# Altium integrated library National Semiconductor Amplifier.IntLib: 1665 symbols (part 38 of 44)
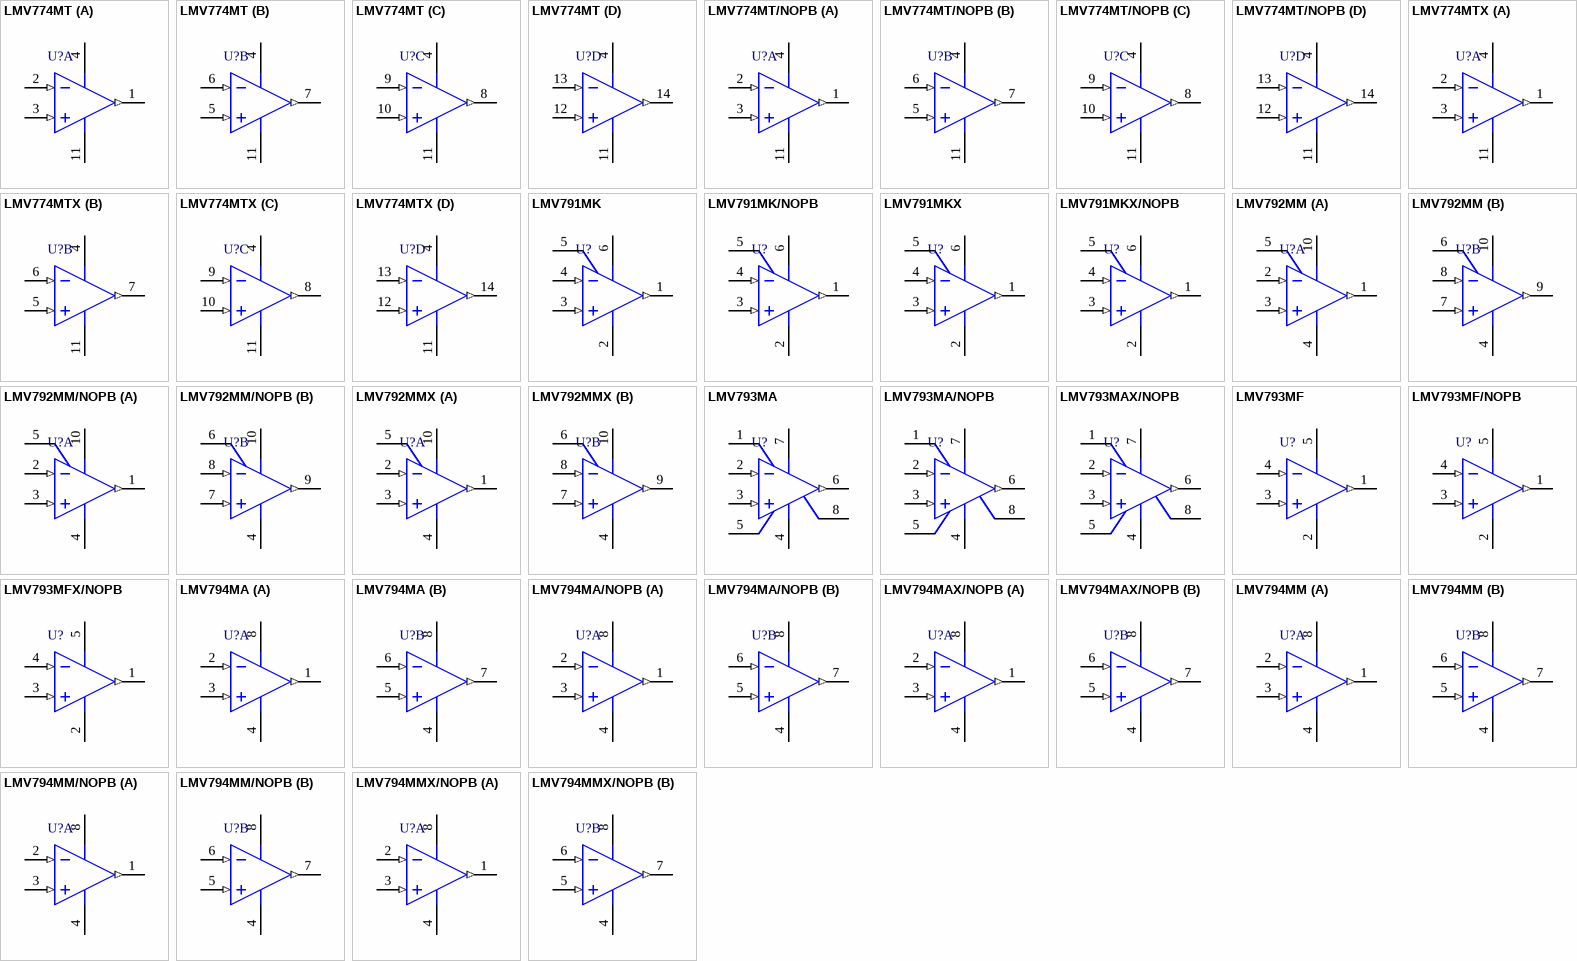
[diagram p121: symbols LMV774MT to LMV794MMX/NOPB]

## LMV791MKX
designator U?
17 MHz, Low Noise, CMOS Input, 1.8V Operational Amplifiers with Shutdown, 6-pin Tiny SOT23; PartNumber: LMV791MKX; Manufacturer: National Semiconductor; PackageTopMarking: AS1A*XTT; PowerWise: Y; DatasheetVersion: Jun-2008; PackageVersion: revE, Nov-2008; PackageReference: MK06A; PackageDescription: Molded TSOT, 2.97 x 1.65 x 0.87mm Body, 6 Lead, 0.95mm Pitch; RoHS: N; PinCount: 6; CompType: Amplifiers; High-Reliability: Y; Code_JEDEC: MO-193-AA; Code_IPC: SOT26A-6; ComponentLink1Description: Manufacturer URL; ComponentLink1URL: http://www.national.com/; ComponentLink2Description: LMV791 Datasheet; ComponentLink2URL: http://www.national.com/ds/LM/LMV791.pdf; ComponentLink3Description: LMV791 Web Page; ComponentLink3URL: http://www.national.com/pf/LM/LMV791.html; ComponentLink4Description: MK06A Package Page; ComponentLink4URL: http://www.national.com/packaging/folders/mk06a.html
footprint MK06A_N (SOT23, 6-Leads, Body 3.0x1.7mm, Pitch 0.95mm, Lead Span 2.9mm, IPC Medium Density)
footprint MK06A_L (SOT23, 6-Leads, Body 3.0x1.7mm, Pitch 0.95mm, Lead Span 2.9mm, IPC High Density)
footprint MK06A_M (SOT23, 6-Leads, Body 3.0x1.7mm, Pitch 0.95mm, Lead Span 2.9mm, IPC Low Density)
pins: 1 OUT (out), 2 V- (power), 3 IN+ (in), 4 IN- (in), 5 EN, 6 V+ (power)

## LMV791MKX/NOPB
designator U?
17 MHz, Low Noise, CMOS Input, 1.8V Operational Amplifiers with Shutdown, 6-pin Tiny SOT23, Pb-Free; PartNumber: LMV791MKX/NOPB; Manufacturer: National Semiconductor; PackageTopMarking: AS1A*XTT; PowerWise: Y; DatasheetVersion: Jun-2008; PackageVersion: revE, Nov-2008; PackageReference: MK06A; PackageDescription: Molded TSOT, 2.97 x 1.65 x 0.87mm Body, 6 Lead, 0.95mm Pitch; RoHS: Y; PinCount: 6; CompType: Amplifiers; High-Reliability: Y; Code_JEDEC: MO-193-AA; Code_IPC: SOT26A-6; ComponentLink1Description: Manufacturer URL; ComponentLink1URL: http://www.national.com/; ComponentLink2Description: LMV791 Datasheet; ComponentLink2URL: http://www.national.com/ds/LM/LMV791.pdf; ComponentLink3Description: LMV791 Web Page; ComponentLink3URL: http://www.national.com/pf/LM/LMV791.html; ComponentLink4Description: MK06A Package Page; ComponentLink4URL: http://www.national.com/packaging/folders/mk06a.html
footprint MK06A_N (SOT23, 6-Leads, Body 3.0x1.7mm, Pitch 0.95mm, Lead Span 2.9mm, IPC Medium Density)
footprint MK06A_L (SOT23, 6-Leads, Body 3.0x1.7mm, Pitch 0.95mm, Lead Span 2.9mm, IPC High Density)
footprint MK06A_M (SOT23, 6-Leads, Body 3.0x1.7mm, Pitch 0.95mm, Lead Span 2.9mm, IPC Low Density)
pins: 1 OUT (out), 2 V- (power), 3 IN+ (in), 4 IN- (in), 5 EN, 6 V+ (power)

## LMV792MM
designator U?
17 MHz, Low Noise, CMOS Input, 1.8V Operational Amplifiers with Shutdown, 10-pin MSOP; PartNumber: LMV792MM; Manufacturer: National Semiconductor; PackageTopMarking: ZXTT*AX2A; PowerWise: Y; DatasheetVersion: Jun-2008; PackageVersion: revB, Jul-2003; PackageReference: MUB10A; PackageDescription: Mini-SO, Molded, .118 x .118 x .034in Body, 10 Lead, .0197in Pitch; RoHS: N; PinCount: 10; CompType: Amplifiers; High-Reliability: Y; Code_JEDEC: MO-187-BA; ComponentLink1Description: Manufacturer URL; ComponentLink1URL: http://www.national.com/; ComponentLink2Description: LMV792 Datasheet; ComponentLink2URL: http://www.national.com/ds/LM/LMV792.pdf; ComponentLink3Description: LMV792 Web Page; ComponentLink3URL: http://www.national.com/pf/LM/LMV792.html; ComponentLink4Description: MUB10A Package Page; ComponentLink4URL: http://www.national.com/packaging/folders/mub10a.html
footprint MUB10A_N (TSSOP, 10-Leads, Body 3x3mm, Pitch 0.5mm, IPC Medium Density)
footprint MUB10A_L (TSSOP, 10-Leads, Body 3x3mm, Pitch 0.5mm, IPC High Density)
footprint MUB10A_M (TSSOP, 10-Leads, Body 3x3mm, Pitch 0.5mm, IPC Low Density)
pins on every part: 4 V- (power), 10 V+ (power)
part A pins: 1 OUTA (out), 2 INA- (in), 3 INA+ (in), 5 ENA
part B pins: 6 ENB, 7 INB+ (in), 8 INB- (in), 9 OUTB (out)

## LMV792MM/NOPB
designator U?
17 MHz, Low Noise, CMOS Input, 1.8V Operational Amplifiers with Shutdown, 10-pin Mini SOIC, Pb-Free; PartNumber: LMV792MM/NOPB; Manufacturer: National Semiconductor; PackageTopMarking: ZXTT*AX2A; PowerWise: Y; DatasheetVersion: Jun-2008; PackageVersion: revB, Jul-2003; PackageReference: MUB10A; PackageDescription: Mini-SO, Molded, .118 x .118 x .034in Body, 10 Lead, .0197in Pitch; RoHS: Y; PinCount: 10; CompType: Amplifiers; High-Reliability: Y; Code_JEDEC: MO-187-BA; ComponentLink1Description: Manufacturer URL; ComponentLink1URL: http://www.national.com/; ComponentLink2Description: LMV792 Datasheet; ComponentLink2URL: http://www.national.com/ds/LM/LMV792.pdf; ComponentLink3Description: LMV792 Web Page; ComponentLink3URL: http://www.national.com/pf/LM/LMV792.html; ComponentLink4Description: MUB10A Package Page; ComponentLink4URL: http://www.national.com/packaging/folders/mub10a.html
footprint MUB10A_N (TSSOP, 10-Leads, Body 3x3mm, Pitch 0.5mm, IPC Medium Density)
footprint MUB10A_L (TSSOP, 10-Leads, Body 3x3mm, Pitch 0.5mm, IPC High Density)
footprint MUB10A_M (TSSOP, 10-Leads, Body 3x3mm, Pitch 0.5mm, IPC Low Density)
pins on every part: 4 V- (power), 10 V+ (power)
part A pins: 1 OUTA (out), 2 INA- (in), 3 INA+ (in), 5 ENA
part B pins: 6 ENB, 7 INB+ (in), 8 INB- (in), 9 OUTB (out)

## LMV792MMX
designator U?
17 MHz, Low Noise, CMOS Input, 1.8V Operational Amplifiers with Shutdown, 10-pin Mini SOIC; PartNumber: LMV792MMX; Manufacturer: National Semiconductor; PackageTopMarking: ZXTT*AX2A; PowerWise: Y; DatasheetVersion: Jun-2008; PackageVersion: revB, Jul-2003; PackageReference: MUB10A; PackageDescription: Mini-SO, Molded, .118 x .118 x .034in Body, 10 Lead, .0197in Pitch; RoHS: N; PinCount: 10; CompType: Amplifiers; High-Reliability: Y; Code_JEDEC: MO-187-BA; ComponentLink1Description: Manufacturer URL; ComponentLink1URL: http://www.national.com/; ComponentLink2Description: LMV792 Datasheet; ComponentLink2URL: http://www.national.com/ds/LM/LMV792.pdf; ComponentLink3Description: LMV792 Web Page; ComponentLink3URL: http://www.national.com/pf/LM/LMV792.html; ComponentLink4Description: MUB10A Package Page; ComponentLink4URL: http://www.national.com/packaging/folders/mub10a.html
footprint MUB10A_N (TSSOP, 10-Leads, Body 3x3mm, Pitch 0.5mm, IPC Medium Density)
footprint MUB10A_L (TSSOP, 10-Leads, Body 3x3mm, Pitch 0.5mm, IPC High Density)
footprint MUB10A_M (TSSOP, 10-Leads, Body 3x3mm, Pitch 0.5mm, IPC Low Density)
pins on every part: 4 V- (power), 10 V+ (power)
part A pins: 1 OUTA (out), 2 INA- (in), 3 INA+ (in), 5 ENA
part B pins: 6 ENB, 7 INB+ (in), 8 INB- (in), 9 OUTB (out)

## LMV793MA
designator U?
88 MHz, Low Noise, 1.8V CMOS Input, Decompensated Operational Amplifiers, 8-pin Narrow SOIC; PartNumber: LMV793MA; Manufacturer: National Semiconductor; PackageTopMarking: NSZXTT*LMV7*93MA; PowerWise: Y; DatasheetVersion: Jun-2008; PackageVersion: revM, May-2009; PackageReference: M08A; PackageDescription: SOIC Narrow, 4.9 x 3.9 x 1.45mm, 8 Lead, 1.27mm Pitch; RoHS: Y; PinCount: 8; CompType: Amplifiers; High-Reliability: Y; Code_JEDEC: MS-012-AA; Code_IPC: SOIC127P600-8; ComponentLink1Description: Manufacturer URL; ComponentLink1URL: http://www.national.com/; ComponentLink2Description: LMV793 Datasheet; ComponentLink2URL: http://www.national.com/ds/LM/LMV793.pdf; ComponentLink3Description: LMV793 Web Page; ComponentLink3URL: http://www.national.com/pf/LM/LMV793.html; ComponentLink4Description: M08A Package Page; ComponentLink4URL: http://www.national.com/packaging/folders/m08a.html
footprint M08A_N (SOIC, 8-Leads, Body 4.9x3.9mm, Pitch 1.27mm, IPC Medium Density)
footprint M08A_L (SOIC, 8-Leads, Body 4.9x3.9mm, Pitch 1.27mm, IPC High Density)
footprint M08A_M (SOIC, 8-Leads, Body 4.9x3.9mm, Pitch 1.27mm, IPC Low Density)
pins: 1 NC, 2 IN- (in), 3 IN+ (in), 4 V- (power), 5 NC, 6 OUT (out), 7 V+ (power), 8 NC

## LMV793MA/NOPB
designator U?
88 MHz, Low Noise, 1.8V CMOS Input, Decompensated Operational Amplifiers, 8-pin Narrow SOIC, Pb-Free; PartNumber: LMV793MA/NOPB; Manufacturer: National Semiconductor; PackageTopMarking: NSZXTT*LMV7*93MA; PowerWise: Y; DatasheetVersion: Jun-2008; PackageVersion: revM, May-2009; PackageReference: M08A; PackageDescription: SOIC Narrow, 4.9 x 3.9 x 1.45mm, 8 Lead, 1.27mm Pitch; RoHS: Y; PinCount: 8; CompType: Amplifiers; High-Reliability: Y; Code_JEDEC: MS-012-AA; Code_IPC: SOIC127P600-8; ComponentLink1Description: Manufacturer URL; ComponentLink1URL: http://www.national.com/; ComponentLink2Description: LMV793 Datasheet; ComponentLink2URL: http://www.national.com/ds/LM/LMV793.pdf; ComponentLink3Description: LMV793 Web Page; ComponentLink3URL: http://www.national.com/pf/LM/LMV793.html; ComponentLink4Description: M08A Package Page; ComponentLink4URL: http://www.national.com/packaging/folders/m08a.html
footprint M08A_N (SOIC, 8-Leads, Body 4.9x3.9mm, Pitch 1.27mm, IPC Medium Density)
footprint M08A_L (SOIC, 8-Leads, Body 4.9x3.9mm, Pitch 1.27mm, IPC High Density)
footprint M08A_M (SOIC, 8-Leads, Body 4.9x3.9mm, Pitch 1.27mm, IPC Low Density)
pins: 1 NC, 2 IN- (in), 3 IN+ (in), 4 V- (power), 5 NC, 6 OUT (out), 7 V+ (power), 8 NC

## LMV793MAX/NOPB
designator U?
88 MHz, Low Noise, 1.8V CMOS Input, Decompensated Operational Amplifiers, 8-pin Narrow SOIC, Pb-Free; PartNumber: LMV793MAX/NOPB; Manufacturer: National Semiconductor; PackageTopMarking: NSZXTT*LMV7*93MA; PowerWise: Y; DatasheetVersion: Jun-2008; PackageVersion: revM, May-2009; PackageReference: M08A; PackageDescription: SOIC Narrow, 4.9 x 3.9 x 1.45mm, 8 Lead, 1.27mm Pitch; RoHS: Y; PinCount: 8; CompType: Amplifiers; High-Reliability: Y; Code_JEDEC: MS-012-AA; Code_IPC: SOIC127P600-8; ComponentLink1Description: Manufacturer URL; ComponentLink1URL: http://www.national.com/; ComponentLink2Description: LMV793 Datasheet; ComponentLink2URL: http://www.national.com/ds/LM/LMV793.pdf; ComponentLink3Description: LMV793 Web Page; ComponentLink3URL: http://www.national.com/pf/LM/LMV793.html; ComponentLink4Description: M08A Package Page; ComponentLink4URL: http://www.national.com/packaging/folders/m08a.html
footprint M08A_N (SOIC, 8-Leads, Body 4.9x3.9mm, Pitch 1.27mm, IPC Medium Density)
footprint M08A_L (SOIC, 8-Leads, Body 4.9x3.9mm, Pitch 1.27mm, IPC High Density)
footprint M08A_M (SOIC, 8-Leads, Body 4.9x3.9mm, Pitch 1.27mm, IPC Low Density)
pins: 1 NC, 2 IN- (in), 3 IN+ (in), 4 V- (power), 5 NC, 6 OUT (out), 7 V+ (power), 8 NC

## LMV793MF
designator U?
88 MHz, Low Noise, 1.8V CMOS Input, Decompensated Operational Amplifiers, 5-pin SOT-23; PartNumber: LMV793MF; Manufacturer: National Semiconductor; PackageTopMarking: AS4A*XTT; PowerWise: Y; DatasheetVersion: Jun-2008; PackageVersion: revD, Aug-2008; PackageReference: MF05A; PackageDescription: Molded SOT-23, .115 x .063 x .040 in Body, 5 Lead, .0375 in Pitch; RoHS: Y; PinCount: 5; CompType: Amplifiers; High-Reliability: Y; ComponentLink1Description: Manufacturer URL; ComponentLink1URL: http://www.national.com/; ComponentLink2Description: LMV793 Datasheet; ComponentLink2URL: http://www.national.com/ds/LM/LMV793.pdf; ComponentLink3Description: LMV793 Web Page; ComponentLink3URL: http://www.national.com/pf/LM/LMV793.html; ComponentLink4Description: MF05A Package Page; ComponentLink4URL: http://www.national.com/packaging/folders/mf05a.html
footprint MF05A_N (SOT23, 5-Leads, Body 2.9x1.6mm, Pitch 0.95mm, Lead Span 2.8mm, IPC Medium Density)
footprint MF05A_L (SOT23, 5-Leads, Body 2.9x1.6mm, Pitch 0.95mm, Lead Span 2.8mm, IPC High Density)
footprint MF05A_M (SOT23, 5-Leads, Body 2.9x1.6mm, Pitch 0.95mm, Lead Span 2.8mm, IPC Low Density)
pins: 1 OUT (out), 2 V- (power), 3 IN+ (in), 4 IN- (in), 5 V+ (power)

## LMV793MF/NOPB
designator U?
88 MHz, Low Noise, 1.8V CMOS Input, Decompensated Operational Amplifiers, 5-pin SOT-23, Pb-Free; PartNumber: LMV793MF/NOPB; Manufacturer: National Semiconductor; PackageTopMarking: AS4A*XTT; PowerWise: Y; DatasheetVersion: Jun-2008; PackageVersion: revD, Aug-2008; PackageReference: MF05A; PackageDescription: Molded SOT-23, .115 x .063 x .040 in Body, 5 Lead, .0375 in Pitch; RoHS: Y; PinCount: 5; CompType: Amplifiers; High-Reliability: Y; ComponentLink1Description: Manufacturer URL; ComponentLink1URL: http://www.national.com/; ComponentLink2Description: LMV793 Datasheet; ComponentLink2URL: http://www.national.com/ds/LM/LMV793.pdf; ComponentLink3Description: LMV793 Web Page; ComponentLink3URL: http://www.national.com/pf/LM/LMV793.html; ComponentLink4Description: MF05A Package Page; ComponentLink4URL: http://www.national.com/packaging/folders/mf05a.html
footprint MF05A_N (SOT23, 5-Leads, Body 2.9x1.6mm, Pitch 0.95mm, Lead Span 2.8mm, IPC Medium Density)
footprint MF05A_L (SOT23, 5-Leads, Body 2.9x1.6mm, Pitch 0.95mm, Lead Span 2.8mm, IPC High Density)
footprint MF05A_M (SOT23, 5-Leads, Body 2.9x1.6mm, Pitch 0.95mm, Lead Span 2.8mm, IPC Low Density)
pins: 1 OUT (out), 2 V- (power), 3 IN+ (in), 4 IN- (in), 5 V+ (power)

## LMV793MFX/NOPB
designator U?
88 MHz, Low Noise, 1.8V CMOS Input, Decompensated Operational Amplifiers, 5-pin SOT-23, Pb-Free; PartNumber: LMV793MFX/NOPB; Manufacturer: National Semiconductor; PackageTopMarking: AS4A*XTT; PowerWise: Y; DatasheetVersion: Jun-2008; PackageVersion: revD, Aug-2008; PackageReference: MF05A; PackageDescription: Molded SOT-23, .115 x .063 x .040 in Body, 5 Lead, .0375 in Pitch; RoHS: Y; PinCount: 5; CompType: Amplifiers; High-Reliability: Y; ComponentLink1Description: Manufacturer URL; ComponentLink1URL: http://www.national.com/; ComponentLink2Description: LMV793 Datasheet; ComponentLink2URL: http://www.national.com/ds/LM/LMV793.pdf; ComponentLink3Description: LMV793 Web Page; ComponentLink3URL: http://www.national.com/pf/LM/LMV793.html; ComponentLink4Description: MF05A Package Page; ComponentLink4URL: http://www.national.com/packaging/folders/mf05a.html
footprint MF05A_N (SOT23, 5-Leads, Body 2.9x1.6mm, Pitch 0.95mm, Lead Span 2.8mm, IPC Medium Density)
footprint MF05A_L (SOT23, 5-Leads, Body 2.9x1.6mm, Pitch 0.95mm, Lead Span 2.8mm, IPC High Density)
footprint MF05A_M (SOT23, 5-Leads, Body 2.9x1.6mm, Pitch 0.95mm, Lead Span 2.8mm, IPC Low Density)
pins: 1 OUT (out), 2 V- (power), 3 IN+ (in), 4 IN- (in), 5 V+ (power)

## LMV794MA
designator U?
88 MHz, Low Noise, 1.8V CMOS Input, Decompensated Operational Amplifiers, 8-pin Narrow SOIC; PartNumber: LMV794MA; Manufacturer: National Semiconductor; PackageTopMarking: NSZXTT*LMV7*94MA; PowerWise: Y; DatasheetVersion: Jun-2008; PackageVersion: revM, May-2009; PackageReference: M08A; PackageDescription: SOIC Narrow, 4.9 x 3.9 x 1.45mm, 8 Lead, 1.27mm Pitch; RoHS: Y; PinCount: 8; CompType: Amplifiers; High-Reliability: Y; Code_JEDEC: MS-012-AA; Code_IPC: SOIC127P600-8; ComponentLink1Description: Manufacturer URL; ComponentLink1URL: http://www.national.com/; ComponentLink2Description: LMV794 Datasheet; ComponentLink2URL: http://www.national.com/ds/LM/LMV794.pdf; ComponentLink3Description: LMV794 Web Page; ComponentLink3URL: http://www.national.com/pf/LM/LMV794.html; ComponentLink4Description: M08A Package Page; ComponentLink4URL: http://www.national.com/packaging/folders/m08a.html
footprint M08A_N (SOIC, 8-Leads, Body 4.9x3.9mm, Pitch 1.27mm, IPC Medium Density)
footprint M08A_L (SOIC, 8-Leads, Body 4.9x3.9mm, Pitch 1.27mm, IPC High Density)
footprint M08A_M (SOIC, 8-Leads, Body 4.9x3.9mm, Pitch 1.27mm, IPC Low Density)
pins on every part: 4 V- (power), 8 V+ (power)
part A pins: 1 OUTA (out), 2 INA- (in), 3 INA+ (in)
part B pins: 5 INB+ (in), 6 INB- (in), 7 OUTB (out)

## LMV794MA/NOPB
designator U?
88 MHz, Low Noise, 1.8V CMOS Input, Decompensated Operational Amplifiers, 8-pin Narrow SOIC, Pb-Free; PartNumber: LMV794MA/NOPB; Manufacturer: National Semiconductor; PackageTopMarking: NSZXTT*LMV7*94MA; PowerWise: Y; DatasheetVersion: Jun-2008; PackageVersion: revM, May-2009; PackageReference: M08A; PackageDescription: SOIC Narrow, 4.9 x 3.9 x 1.45mm, 8 Lead, 1.27mm Pitch; RoHS: Y; PinCount: 8; CompType: Amplifiers; High-Reliability: Y; Code_JEDEC: MS-012-AA; Code_IPC: SOIC127P600-8; ComponentLink1Description: Manufacturer URL; ComponentLink1URL: http://www.national.com/; ComponentLink2Description: LMV794 Datasheet; ComponentLink2URL: http://www.national.com/ds/LM/LMV794.pdf; ComponentLink3Description: LMV794 Web Page; ComponentLink3URL: http://www.national.com/pf/LM/LMV794.html; ComponentLink4Description: M08A Package Page; ComponentLink4URL: http://www.national.com/packaging/folders/m08a.html
footprint M08A_N (SOIC, 8-Leads, Body 4.9x3.9mm, Pitch 1.27mm, IPC Medium Density)
footprint M08A_L (SOIC, 8-Leads, Body 4.9x3.9mm, Pitch 1.27mm, IPC High Density)
footprint M08A_M (SOIC, 8-Leads, Body 4.9x3.9mm, Pitch 1.27mm, IPC Low Density)
pins on every part: 4 V- (power), 8 V+ (power)
part A pins: 1 OUTA (out), 2 INA- (in), 3 INA+ (in)
part B pins: 5 INB+ (in), 6 INB- (in), 7 OUTB (out)

## LMV794MAX/NOPB
designator U?
88 MHz, Low Noise, 1.8V CMOS Input, Decompensated Operational Amplifiers, 8-pin Narrow SOIC, Pb-Free; PartNumber: LMV794MAX/NOPB; Manufacturer: National Semiconductor; PackageTopMarking: NSZXTT*LMV7*94MA; PowerWise: Y; DatasheetVersion: Jun-2008; PackageVersion: revM, May-2009; PackageReference: M08A; PackageDescription: SOIC Narrow, 4.9 x 3.9 x 1.45mm, 8 Lead, 1.27mm Pitch; RoHS: Y; PinCount: 8; CompType: Amplifiers; High-Reliability: Y; Code_JEDEC: MS-012-AA; Code_IPC: SOIC127P600-8; ComponentLink1Description: Manufacturer URL; ComponentLink1URL: http://www.national.com/; ComponentLink2Description: LMV794 Datasheet; ComponentLink2URL: http://www.national.com/ds/LM/LMV794.pdf; ComponentLink3Description: LMV794 Web Page; ComponentLink3URL: http://www.national.com/pf/LM/LMV794.html; ComponentLink4Description: M08A Package Page; ComponentLink4URL: http://www.national.com/packaging/folders/m08a.html
footprint M08A_N (SOIC, 8-Leads, Body 4.9x3.9mm, Pitch 1.27mm, IPC Medium Density)
footprint M08A_L (SOIC, 8-Leads, Body 4.9x3.9mm, Pitch 1.27mm, IPC High Density)
footprint M08A_M (SOIC, 8-Leads, Body 4.9x3.9mm, Pitch 1.27mm, IPC Low Density)
pins on every part: 4 V- (power), 8 V+ (power)
part A pins: 1 OUTA (out), 2 INA- (in), 3 INA+ (in)
part B pins: 5 INB+ (in), 6 INB- (in), 7 OUTB (out)

## LMV794MM
designator U?
88 MHz, Low Noise, 1.8V CMOS Input, Decompensated Operational Amplifiers, 8-pin Mini SOIC; PartNumber: LMV794MM; Manufacturer: National Semiconductor; PackageTopMarking: ZXTT*AN4A; PowerWise: Y; DatasheetVersion: Jun-2008; PackageVersion: revF, Apr-2008; PackageReference: MUA08A; PackageDescription: MINI SOIC, .118 x .118 x .034in, 8 Lead, .0256in Pitch; RoHS: Y; PinCount: 8; CompType: Amplifiers; High-Reliability: Y; Code_JEDEC: MO-187-AA; ComponentLink1Description: Manufacturer URL; ComponentLink1URL: http://www.national.com/; ComponentLink2Description: LMV794 Datasheet; ComponentLink2URL: http://www.national.com/ds/LM/LMV794.pdf; ComponentLink3Description: LMV794 Web Page; ComponentLink3URL: http://www.national.com/pf/LM/LMV794.html; ComponentLink4Description: MUA08A Package Page; ComponentLink4URL: http://www.national.com/packaging/folders/mua08a.html
footprint MUA08A_N (TSOP, 8-Leads, Body 3x3mm, Pitch 0.65mm, IPC Medium Density)
footprint MUA08A_L (TSOP, 8-Leads, Body 3x3mm, Pitch 0.65mm, IPC High Density)
footprint MUA08A_M (TSOP, 8-Leads, Body 3x3mm, Pitch 0.65mm, IPC Low Density)
pins on every part: 4 V- (power), 8 V+ (power)
part A pins: 1 OUTA (out), 2 INA- (in), 3 INA+ (in)
part B pins: 5 INB+ (in), 6 INB- (in), 7 OUTB (out)

## LMV794MM/NOPB
designator U?
88 MHz, Low Noise, 1.8V CMOS Input, Decompensated Operational Amplifiers, 8-pin Mini SOIC, Pb-Free; PartNumber: LMV794MM/NOPB; Manufacturer: National Semiconductor; PackageTopMarking: ZXTT*AN4A; PowerWise: Y; DatasheetVersion: Jun-2008; PackageVersion: revF, Apr-2008; PackageReference: MUA08A; PackageDescription: MINI SOIC, .118 x .118 x .034in, 8 Lead, .0256in Pitch; RoHS: Y; PinCount: 8; CompType: Amplifiers; High-Reliability: Y; Code_JEDEC: MO-187-AA; ComponentLink1Description: Manufacturer URL; ComponentLink1URL: http://www.national.com/; ComponentLink2Description: LMV794 Datasheet; ComponentLink2URL: http://www.national.com/ds/LM/LMV794.pdf; ComponentLink3Description: LMV794 Web Page; ComponentLink3URL: http://www.national.com/pf/LM/LMV794.html; ComponentLink4Description: MUA08A Package Page; ComponentLink4URL: http://www.national.com/packaging/folders/mua08a.html
footprint MUA08A_N (TSOP, 8-Leads, Body 3x3mm, Pitch 0.65mm, IPC Medium Density)
footprint MUA08A_L (TSOP, 8-Leads, Body 3x3mm, Pitch 0.65mm, IPC High Density)
footprint MUA08A_M (TSOP, 8-Leads, Body 3x3mm, Pitch 0.65mm, IPC Low Density)
pins on every part: 4 V- (power), 8 V+ (power)
part A pins: 1 OUTA (out), 2 INA- (in), 3 INA+ (in)
part B pins: 5 INB+ (in), 6 INB- (in), 7 OUTB (out)

## LMV794MMX/NOPB
designator U?
88 MHz, Low Noise, 1.8V CMOS Input, Decompensated Operational Amplifiers, 8-pin Mini SOIC, Pb-Free; PartNumber: LMV794MMX/NOPB; Manufacturer: National Semiconductor; PackageTopMarking: ZXTT*AN4A; PowerWise: Y; DatasheetVersion: Jun-2008; PackageVersion: revF, Apr-2008; PackageReference: MUA08A; PackageDescription: MINI SOIC, .118 x .118 x .034in, 8 Lead, .0256in Pitch; RoHS: Y; PinCount: 8; CompType: Amplifiers; High-Reliability: Y; Code_JEDEC: MO-187-AA; ComponentLink1Description: Manufacturer URL; ComponentLink1URL: http://www.national.com/; ComponentLink2Description: LMV794 Datasheet; ComponentLink2URL: http://www.national.com/ds/LM/LMV794.pdf; ComponentLink3Description: LMV794 Web Page; ComponentLink3URL: http://www.national.com/pf/LM/LMV794.html; ComponentLink4Description: MUA08A Package Page; ComponentLink4URL: http://www.national.com/packaging/folders/mua08a.html
footprint MUA08A_N (TSOP, 8-Leads, Body 3x3mm, Pitch 0.65mm, IPC Medium Density)
footprint MUA08A_L (TSOP, 8-Leads, Body 3x3mm, Pitch 0.65mm, IPC High Density)
footprint MUA08A_M (TSOP, 8-Leads, Body 3x3mm, Pitch 0.65mm, IPC Low Density)
pins on every part: 4 V- (power), 8 V+ (power)
part A pins: 1 OUTA (out), 2 INA- (in), 3 INA+ (in)
part B pins: 5 INB+ (in), 6 INB- (in), 7 OUTB (out)

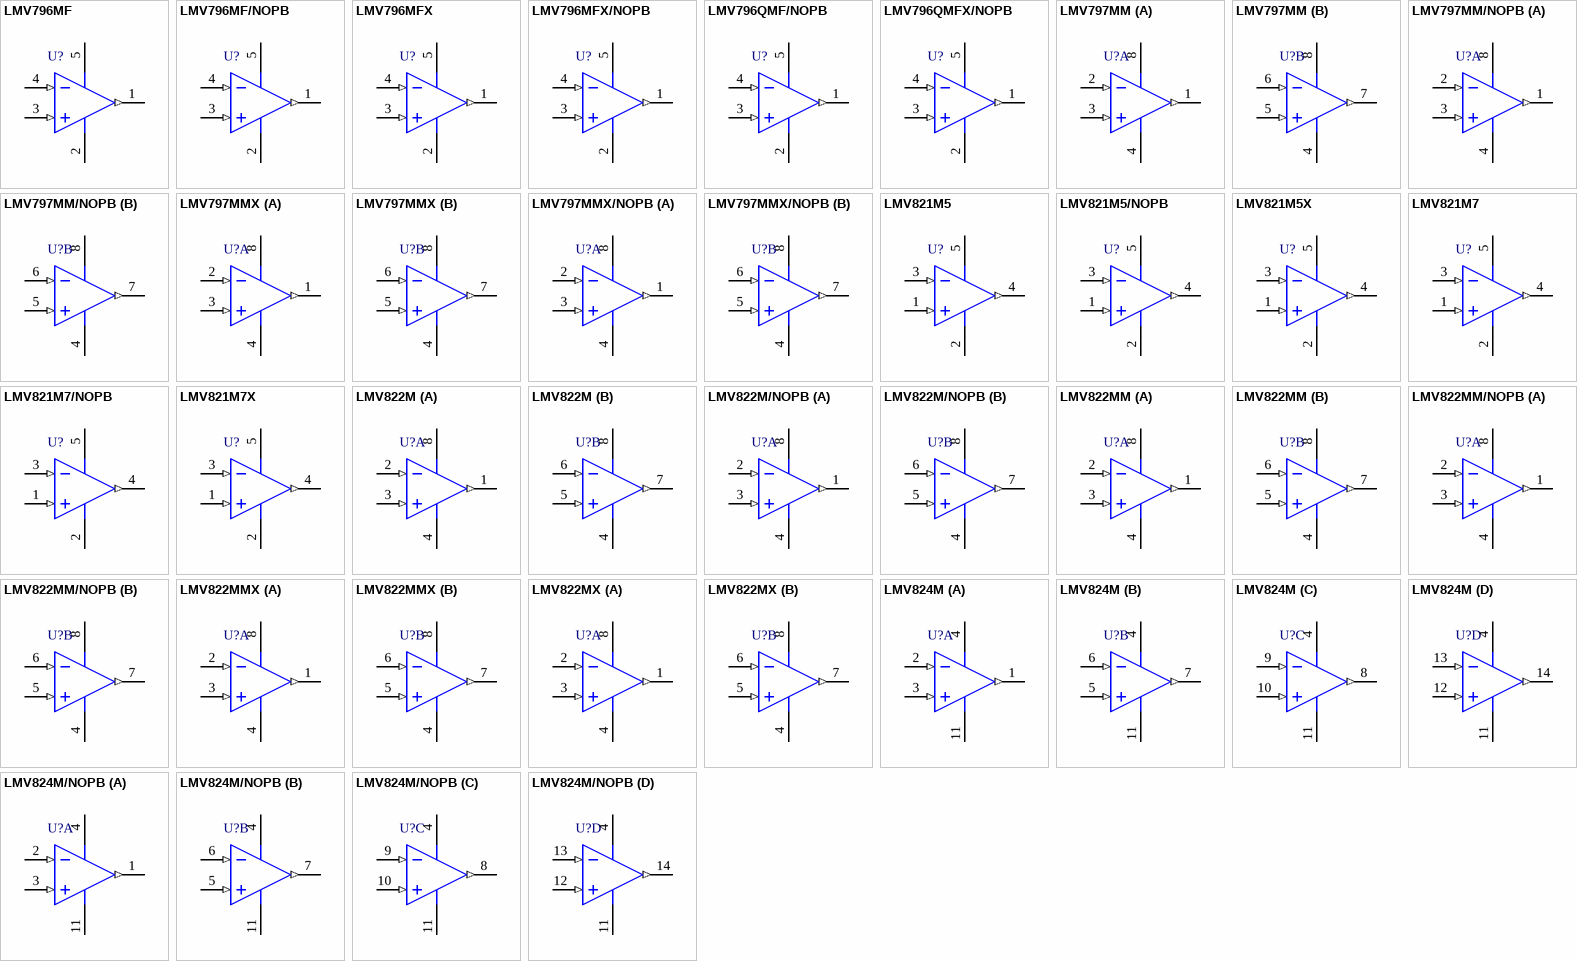
[diagram p73: symbols LMV796MF to LMV824M/NOPB]

## LMV796MF
designator U?
17 MHz, Low Noise, CMOS Input, 1.8V Operational Amplifiers, 5-pin SOT-23; PartNumber: LMV796MF; Manufacturer: National Semiconductor; PackageTopMarking: AT3A*XTT; PowerWise: Y; DatasheetVersion: Feb-2011; PackageVersion: revD, Aug-2008; PackageReference: MF05A; PackageDescription: Molded SOT-23, .115 x .063 x .040 in Body, 5 Lead, .0375 in Pitch; RoHS: N; PinCount: 5; CompType: Amplifiers; High-Reliability: Y; ComponentLink1Description: Manufacturer URL; ComponentLink1URL: http://www.national.com/; ComponentLink2Description: LMV796 Datasheet; ComponentLink2URL: http://www.national.com/ds/LM/LMV796.pdf; ComponentLink3Description: LMV796 Web Page; ComponentLink3URL: http://www.national.com/pf/LM/LMV796.html; ComponentLink4Description: MF05A Package Page; ComponentLink4URL: http://www.national.com/packaging/folders/mf05a.html
footprint MF05A_N (SOT23, 5-Leads, Body 2.9x1.6mm, Pitch 0.95mm, Lead Span 2.8mm, IPC Medium Density)
footprint MF05A_L (SOT23, 5-Leads, Body 2.9x1.6mm, Pitch 0.95mm, Lead Span 2.8mm, IPC High Density)
footprint MF05A_M (SOT23, 5-Leads, Body 2.9x1.6mm, Pitch 0.95mm, Lead Span 2.8mm, IPC Low Density)
pins: 1 OUT (out), 2 V- (power), 3 IN+ (in), 4 IN- (in), 5 V+ (power)

## LMV796MF/NOPB
designator U?
17 MHz, Low Noise, CMOS Input, 1.8V Operational Amplifiers, 5-pin SOT-23, Pb-Free; PartNumber: LMV796MF/NOPB; Manufacturer: National Semiconductor; PackageTopMarking: AT3A*XTT; PowerWise: Y; DatasheetVersion: Feb-2011; PackageVersion: revD, Aug-2008; PackageReference: MF05A; PackageDescription: Molded SOT-23, .115 x .063 x .040 in Body, 5 Lead, .0375 in Pitch; RoHS: Y; PinCount: 5; CompType: Amplifiers; High-Reliability: Y; ComponentLink1Description: Manufacturer URL; ComponentLink1URL: http://www.national.com/; ComponentLink2Description: LMV796 Datasheet; ComponentLink2URL: http://www.national.com/ds/LM/LMV796.pdf; ComponentLink3Description: LMV796 Web Page; ComponentLink3URL: http://www.national.com/pf/LM/LMV796.html; ComponentLink4Description: MF05A Package Page; ComponentLink4URL: http://www.national.com/packaging/folders/mf05a.html
footprint MF05A_N (SOT23, 5-Leads, Body 2.9x1.6mm, Pitch 0.95mm, Lead Span 2.8mm, IPC Medium Density)
footprint MF05A_L (SOT23, 5-Leads, Body 2.9x1.6mm, Pitch 0.95mm, Lead Span 2.8mm, IPC High Density)
footprint MF05A_M (SOT23, 5-Leads, Body 2.9x1.6mm, Pitch 0.95mm, Lead Span 2.8mm, IPC Low Density)
pins: 1 OUT (out), 2 V- (power), 3 IN+ (in), 4 IN- (in), 5 V+ (power)

## LMV796MFX
designator U?
17 MHz, Low Noise, CMOS Input, 1.8V Operational Amplifiers, 5-pin SOT-23; PartNumber: LMV796MFX; Manufacturer: National Semiconductor; PackageTopMarking: AT3A*XTT; PowerWise: Y; DatasheetVersion: Feb-2011; PackageVersion: revD, Aug-2008; PackageReference: MF05A; PackageDescription: Molded SOT-23, .115 x .063 x .040 in Body, 5 Lead, .0375 in Pitch; RoHS: N; PinCount: 5; CompType: Amplifiers; High-Reliability: Y; ComponentLink1Description: Manufacturer URL; ComponentLink1URL: http://www.national.com/; ComponentLink2Description: LMV796 Datasheet; ComponentLink2URL: http://www.national.com/ds/LM/LMV796.pdf; ComponentLink3Description: LMV796 Web Page; ComponentLink3URL: http://www.national.com/pf/LM/LMV796.html; ComponentLink4Description: MF05A Package Page; ComponentLink4URL: http://www.national.com/packaging/folders/mf05a.html
footprint MF05A_N (SOT23, 5-Leads, Body 2.9x1.6mm, Pitch 0.95mm, Lead Span 2.8mm, IPC Medium Density)
footprint MF05A_L (SOT23, 5-Leads, Body 2.9x1.6mm, Pitch 0.95mm, Lead Span 2.8mm, IPC High Density)
footprint MF05A_M (SOT23, 5-Leads, Body 2.9x1.6mm, Pitch 0.95mm, Lead Span 2.8mm, IPC Low Density)
pins: 1 OUT (out), 2 V- (power), 3 IN+ (in), 4 IN- (in), 5 V+ (power)

## LMV796MFX/NOPB
designator U?
17 MHz, Low Noise, CMOS Input, 1.8V Operational Amplifiers, 5-pin SOT-23, Pb-Free; PartNumber: LMV796MFX/NOPB; Manufacturer: National Semiconductor; PackageTopMarking: AT3A*XTT; PowerWise: Y; DatasheetVersion: Feb-2011; PackageVersion: revD, Aug-2008; PackageReference: MF05A; PackageDescription: Molded SOT-23, .115 x .063 x .040 in Body, 5 Lead, .0375 in Pitch; RoHS: Y; PinCount: 5; CompType: Amplifiers; High-Reliability: Y; ComponentLink1Description: Manufacturer URL; ComponentLink1URL: http://www.national.com/; ComponentLink2Description: LMV796 Datasheet; ComponentLink2URL: http://www.national.com/ds/LM/LMV796.pdf; ComponentLink3Description: LMV796 Web Page; ComponentLink3URL: http://www.national.com/pf/LM/LMV796.html; ComponentLink4Description: MF05A Package Page; ComponentLink4URL: http://www.national.com/packaging/folders/mf05a.html
footprint MF05A_N (SOT23, 5-Leads, Body 2.9x1.6mm, Pitch 0.95mm, Lead Span 2.8mm, IPC Medium Density)
footprint MF05A_L (SOT23, 5-Leads, Body 2.9x1.6mm, Pitch 0.95mm, Lead Span 2.8mm, IPC High Density)
footprint MF05A_M (SOT23, 5-Leads, Body 2.9x1.6mm, Pitch 0.95mm, Lead Span 2.8mm, IPC Low Density)
pins: 1 OUT (out), 2 V- (power), 3 IN+ (in), 4 IN- (in), 5 V+ (power)

## LMV796QMF/NOPB
designator U?
17 MHz, Low Noise, CMOS Input, 1.8V Operational Amplifier, Automotive Grade1, 5-pin SOT-23, Pb-Free; PartNumber: LMV796QMF/NOPB; Manufacturer: National Semiconductor; PackageTopMarking: AD7A*XTT; PowerWise: N; CompType: Amplifiers; High-Reliability: Y; DatasheetVersion: Feb-2011; PackageVersion: revD, Aug-2008; PackageReference: MF05A; PackageDescription: Molded SOT-23, .115 x .063 x .040 in Body, 5 Lead, .0375 in Pitch; RoHS: Y; PinCount: 5; ComponentLink1Description: Manufacturer URL; ComponentLink1URL: http://www.national.com/; ComponentLink2Description: LMV796 Datasheet; ComponentLink2URL: http://www.national.com/ds/LM/LMV796.pdf; ComponentLink3Description: LMV796 Web Page; ComponentLink3URL: http://www.national.com/pf/LM/LMV796.html; ComponentLink4Description: MF05A Package Page; ComponentLink4URL: http://www.national.com/packaging/folders/mf05a.html
footprint MF05A_N (SOT23, 5-Leads, Body 2.9x1.6mm, Pitch 0.95mm, Lead Span 2.8mm, IPC Medium Density)
footprint MF05A_L (SOT23, 5-Leads, Body 2.9x1.6mm, Pitch 0.95mm, Lead Span 2.8mm, IPC High Density)
footprint MF05A_M (SOT23, 5-Leads, Body 2.9x1.6mm, Pitch 0.95mm, Lead Span 2.8mm, IPC Low Density)
pins: 1 OUT (out), 2 V- (power), 3 IN+ (in), 4 IN- (in), 5 V+ (power)

## LMV796QMFX/NOPB
designator U?
17 MHz, Low Noise, CMOS Input, 1.8V Operational Amplifier, Automotive Grade1, 5-pin SOT-23, Pb-Free; PartNumber: LMV796QMFX/NOPB; Manufacturer: National Semiconductor; PackageTopMarking: AD7A*XTT; PowerWise: N; CompType: Amplifiers; High-Reliability: Y; DatasheetVersion: Feb-2011; PackageVersion: revD, Aug-2008; PackageReference: MF05A; PackageDescription: Molded SOT-23, .115 x .063 x .040 in Body, 5 Lead, .0375 in Pitch; RoHS: Y; PinCount: 5; ComponentLink1Description: Manufacturer URL; ComponentLink1URL: http://www.national.com/; ComponentLink2Description: LMV796 Datasheet; ComponentLink2URL: http://www.national.com/ds/LM/LMV796.pdf; ComponentLink3Description: LMV796 Web Page; ComponentLink3URL: http://www.national.com/pf/LM/LMV796.html; ComponentLink4Description: MF05A Package Page; ComponentLink4URL: http://www.national.com/packaging/folders/mf05a.html
footprint MF05A_N (SOT23, 5-Leads, Body 2.9x1.6mm, Pitch 0.95mm, Lead Span 2.8mm, IPC Medium Density)
footprint MF05A_L (SOT23, 5-Leads, Body 2.9x1.6mm, Pitch 0.95mm, Lead Span 2.8mm, IPC High Density)
footprint MF05A_M (SOT23, 5-Leads, Body 2.9x1.6mm, Pitch 0.95mm, Lead Span 2.8mm, IPC Low Density)
pins: 1 OUT (out), 2 V- (power), 3 IN+ (in), 4 IN- (in), 5 V+ (power)

## LMV797MM
designator U?
17 MHz, Low Noise, CMOS Input, 1.8V Operational Amplifiers, 8-pin Mini SOIC; PartNumber: LMV797MM; Manufacturer: National Semiconductor; PackageTopMarking: ZXTT*AU3A; PowerWise: Y; DatasheetVersion: Jun-2008; PackageVersion: revF, Apr-2008; PackageReference: MUA08A; PackageDescription: MINI SOIC, .118 x .118 x .034in, 8 Lead, .0256in Pitch; RoHS: N; PinCount: 8; CompType: Amplifiers; High-Reliability: Y; Code_JEDEC: MO-187-AA; ComponentLink1Description: Manufacturer URL; ComponentLink1URL: http://www.national.com/; ComponentLink2Description: LMV797 Datasheet; ComponentLink2URL: http://www.national.com/ds/LM/LMV797.pdf; ComponentLink3Description: LMV797 Web Page; ComponentLink3URL: http://www.national.com/pf/LM/LMV797.html; ComponentLink4Description: MUA08A Package Page; ComponentLink4URL: http://www.national.com/packaging/folders/mua08a.html
footprint MUA08A_N (TSOP, 8-Leads, Body 3x3mm, Pitch 0.65mm, IPC Medium Density)
footprint MUA08A_L (TSOP, 8-Leads, Body 3x3mm, Pitch 0.65mm, IPC High Density)
footprint MUA08A_M (TSOP, 8-Leads, Body 3x3mm, Pitch 0.65mm, IPC Low Density)
pins on every part: 4 V- (power), 8 V+ (power)
part A pins: 1 OUTA (out), 2 INA- (in), 3 INA+ (in)
part B pins: 5 INB+ (in), 6 INB- (in), 7 OUTB (out)

## LMV797MM/NOPB
designator U?
17 MHz, Low Noise, CMOS Input, 1.8V Operational Amplifiers, 8-pin Mini SOIC, Pb-Free; PartNumber: LMV797MM/NOPB; Manufacturer: National Semiconductor; PackageTopMarking: ZXTT*AU3A; PowerWise: Y; DatasheetVersion: Jun-2008; PackageVersion: revF, Apr-2008; PackageReference: MUA08A; PackageDescription: MINI SOIC, .118 x .118 x .034in, 8 Lead, .0256in Pitch; RoHS: Y; PinCount: 8; CompType: Amplifiers; High-Reliability: Y; Code_JEDEC: MO-187-AA; ComponentLink1Description: Manufacturer URL; ComponentLink1URL: http://www.national.com/; ComponentLink2Description: LMV797 Datasheet; ComponentLink2URL: http://www.national.com/ds/LM/LMV797.pdf; ComponentLink3Description: LMV797 Web Page; ComponentLink3URL: http://www.national.com/pf/LM/LMV797.html; ComponentLink4Description: MUA08A Package Page; ComponentLink4URL: http://www.national.com/packaging/folders/mua08a.html
footprint MUA08A_N (TSOP, 8-Leads, Body 3x3mm, Pitch 0.65mm, IPC Medium Density)
footprint MUA08A_L (TSOP, 8-Leads, Body 3x3mm, Pitch 0.65mm, IPC High Density)
footprint MUA08A_M (TSOP, 8-Leads, Body 3x3mm, Pitch 0.65mm, IPC Low Density)
pins on every part: 4 V- (power), 8 V+ (power)
part A pins: 1 OUTA (out), 2 INA- (in), 3 INA+ (in)
part B pins: 5 INB+ (in), 6 INB- (in), 7 OUTB (out)

## LMV797MMX
designator U?
17 MHz, Low Noise, CMOS Input, 1.8V Operational Amplifiers, 8-pin Mini SOIC; PartNumber: LMV797MMX; Manufacturer: National Semiconductor; PackageTopMarking: ZXTT*AU3A; PowerWise: Y; DatasheetVersion: Jun-2008; PackageVersion: revF, Apr-2008; PackageReference: MUA08A; PackageDescription: MINI SOIC, .118 x .118 x .034in, 8 Lead, .0256in Pitch; RoHS: N; PinCount: 8; CompType: Amplifiers; High-Reliability: Y; Code_JEDEC: MO-187-AA; ComponentLink1Description: Manufacturer URL; ComponentLink1URL: http://www.national.com/; ComponentLink2Description: LMV797 Datasheet; ComponentLink2URL: http://www.national.com/ds/LM/LMV797.pdf; ComponentLink3Description: LMV797 Web Page; ComponentLink3URL: http://www.national.com/pf/LM/LMV797.html; ComponentLink4Description: MUA08A Package Page; ComponentLink4URL: http://www.national.com/packaging/folders/mua08a.html
footprint MUA08A_N (TSOP, 8-Leads, Body 3x3mm, Pitch 0.65mm, IPC Medium Density)
footprint MUA08A_L (TSOP, 8-Leads, Body 3x3mm, Pitch 0.65mm, IPC High Density)
footprint MUA08A_M (TSOP, 8-Leads, Body 3x3mm, Pitch 0.65mm, IPC Low Density)
pins on every part: 4 V- (power), 8 V+ (power)
part A pins: 1 OUTA (out), 2 INA- (in), 3 INA+ (in)
part B pins: 5 INB+ (in), 6 INB- (in), 7 OUTB (out)

## LMV797MMX/NOPB
designator U?
17 MHz, Low Noise, CMOS Input, 1.8V Operational Amplifiers, 8-pin Mini SOIC, Pb-Free; PartNumber: LMV797MMX/NOPB; Manufacturer: National Semiconductor; PackageTopMarking: ZXTT*AU3A; PowerWise: Y; DatasheetVersion: Jun-2008; PackageVersion: revF, Apr-2008; PackageReference: MUA08A; PackageDescription: MINI SOIC, .118 x .118 x .034in, 8 Lead, .0256in Pitch; RoHS: Y; PinCount: 8; CompType: Amplifiers; High-Reliability: Y; Code_JEDEC: MO-187-AA; ComponentLink1Description: Manufacturer URL; ComponentLink1URL: http://www.national.com/; ComponentLink2Description: LMV797 Datasheet; ComponentLink2URL: http://www.national.com/ds/LM/LMV797.pdf; ComponentLink3Description: LMV797 Web Page; ComponentLink3URL: http://www.national.com/pf/LM/LMV797.html; ComponentLink4Description: MUA08A Package Page; ComponentLink4URL: http://www.national.com/packaging/folders/mua08a.html
footprint MUA08A_N (TSOP, 8-Leads, Body 3x3mm, Pitch 0.65mm, IPC Medium Density)
footprint MUA08A_L (TSOP, 8-Leads, Body 3x3mm, Pitch 0.65mm, IPC High Density)
footprint MUA08A_M (TSOP, 8-Leads, Body 3x3mm, Pitch 0.65mm, IPC Low Density)
pins on every part: 4 V- (power), 8 V+ (power)
part A pins: 1 OUTA (out), 2 INA- (in), 3 INA+ (in)
part B pins: 5 INB+ (in), 6 INB- (in), 7 OUTB (out)

## LMV821M5
designator U?
5MHz, Low Voltage, Low Power, RRO, 5 MHz Op Amps, 5-pin SOT-23; PartNumber: LMV821M5; Manufacturer: National Semiconductor; PackageTopMarking: A14*XTT; PowerWise: N; CompType: Amplifiers; High-Reliability: Y; DatasheetVersion: Nov-2003; PackageVersion: revD, Aug-2008; PackageReference: MF05A; PackageDescription: Molded SOT-23, .115 x .063 x .040 in Body, 5 Lead, .0375 in Pitch; RoHS: N; PinCount: 5; ComponentLink1Description: Manufacturer URL; ComponentLink1URL: http://www.national.com/; ComponentLink2Description: LMV821 Datasheet; ComponentLink2URL: http://www.national.com/ds/LM/LMV821.pdf; ComponentLink3Description: LMV821 Web Page; ComponentLink3URL: http://www.national.com/pf/LM/LMV821.html; ComponentLink4Description: MF05A Package Page; ComponentLink4URL: http://www.national.com/packaging/folders/mf05a.html
footprint MF05A_N (SOT23, 5-Leads, Body 2.9x1.6mm, Pitch 0.95mm, Lead Span 2.8mm, IPC Medium Density)
footprint MF05A_L (SOT23, 5-Leads, Body 2.9x1.6mm, Pitch 0.95mm, Lead Span 2.8mm, IPC High Density)
footprint MF05A_M (SOT23, 5-Leads, Body 2.9x1.6mm, Pitch 0.95mm, Lead Span 2.8mm, IPC Low Density)
pins: 1 IN+ (in), 2 V- (power), 3 IN- (in), 4 OUT (out), 5 V+ (power)

## LMV821M5/NOPB
designator U?
5MHz, Low Voltage, Low Power, RRO, 5 MHz Op Amps, 5-pin SOT-23, Pb-Free; PartNumber: LMV821M5/NOPB; Manufacturer: National Semiconductor; PackageTopMarking: A14*XTT; PowerWise: N; CompType: Amplifiers; High-Reliability: Y; DatasheetVersion: Nov-2003; PackageVersion: revD, Aug-2008; PackageReference: MF05A; PackageDescription: Molded SOT-23, .115 x .063 x .040 in Body, 5 Lead, .0375 in Pitch; RoHS: Y; PinCount: 5; ComponentLink1Description: Manufacturer URL; ComponentLink1URL: http://www.national.com/; ComponentLink2Description: LMV821 Datasheet; ComponentLink2URL: http://www.national.com/ds/LM/LMV821.pdf; ComponentLink3Description: LMV821 Web Page; ComponentLink3URL: http://www.national.com/pf/LM/LMV821.html; ComponentLink4Description: MF05A Package Page; ComponentLink4URL: http://www.national.com/packaging/folders/mf05a.html
footprint MF05A_N (SOT23, 5-Leads, Body 2.9x1.6mm, Pitch 0.95mm, Lead Span 2.8mm, IPC Medium Density)
footprint MF05A_L (SOT23, 5-Leads, Body 2.9x1.6mm, Pitch 0.95mm, Lead Span 2.8mm, IPC High Density)
footprint MF05A_M (SOT23, 5-Leads, Body 2.9x1.6mm, Pitch 0.95mm, Lead Span 2.8mm, IPC Low Density)
pins: 1 IN+ (in), 2 V- (power), 3 IN- (in), 4 OUT (out), 5 V+ (power)

## LMV821M5X
designator U?
5MHz, Low Voltage, Low Power, RRO, 5 MHz Op Amps, 5-pin SOT-23; PartNumber: LMV821M5X; Manufacturer: National Semiconductor; PackageTopMarking: A14*XTT; PowerWise: N; CompType: Amplifiers; High-Reliability: Y; DatasheetVersion: Nov-2003; PackageVersion: revD, Aug-2008; PackageReference: MF05A; PackageDescription: Molded SOT-23, .115 x .063 x .040 in Body, 5 Lead, .0375 in Pitch; RoHS: N; PinCount: 5; ComponentLink1Description: Manufacturer URL; ComponentLink1URL: http://www.national.com/; ComponentLink2Description: LMV821 Datasheet; ComponentLink2URL: http://www.national.com/ds/LM/LMV821.pdf; ComponentLink3Description: LMV821 Web Page; ComponentLink3URL: http://www.national.com/pf/LM/LMV821.html; ComponentLink4Description: MF05A Package Page; ComponentLink4URL: http://www.national.com/packaging/folders/mf05a.html
footprint MF05A_N (SOT23, 5-Leads, Body 2.9x1.6mm, Pitch 0.95mm, Lead Span 2.8mm, IPC Medium Density)
footprint MF05A_L (SOT23, 5-Leads, Body 2.9x1.6mm, Pitch 0.95mm, Lead Span 2.8mm, IPC High Density)
footprint MF05A_M (SOT23, 5-Leads, Body 2.9x1.6mm, Pitch 0.95mm, Lead Span 2.8mm, IPC Low Density)
pins: 1 IN+ (in), 2 V- (power), 3 IN- (in), 4 OUT (out), 5 V+ (power)

## LMV821M7
designator U?
5MHz, Low Voltage, Low Power, RRO, 5 MHz Op Amps, 5-pin SC-70; PartNumber: LMV821M7; Manufacturer: National Semiconductor; PackageTopMarking: A15*XTT; PowerWise: N; CompType: Amplifiers; High-Reliability: Y; DatasheetVersion: Nov-2003; PackageVersion: revD, Jun-2007; PackageReference: MAA05A; PackageDescription: Molded SC-70, 2 x 1.25 x .9mm, 5 Lead, 0.65mm Pitch; RoHS: N; PinCount: 5; Code_JEITA: SC-88A; Code_JEDEC: MO-203-AA; Code_IPC: SOT353-5; ComponentLink1Description: Manufacturer URL; ComponentLink1URL: http://www.national.com/; ComponentLink2Description: LMV821 Datasheet; ComponentLink2URL: http://www.national.com/ds/LM/LMV821.pdf; ComponentLink3Description: LMV821 Web Page; ComponentLink3URL: http://www.national.com/pf/LM/LMV821.html; ComponentLink4Description: MAA05A Package Page; ComponentLink4URL: http://www.national.com/packaging/folders/maa05a.html
footprint MAA05A_N (SOT353, 5-Leads, Body 2x1.3mm, Pitch 0.65mm, Lead Span 2.1mm, IPC Medium Density)
footprint MAA05A_L (SOT353, 5-Leads, Body 2x1.3mm, Pitch 0.65mm, Lead Span 2.1mm, IPC High Density)
footprint MAA05A_M (SOT353, 5-Leads, Body 2x1.3mm, Pitch 0.65mm, Lead Span 2.1mm, IPC Low Density)
pins: 1 IN+ (in), 2 V- (power), 3 IN- (in), 4 OUT (out), 5 V+ (power)

## LMV821M7/NOPB
designator U?
5MHz, Low Voltage, Low Power, RRO, 5 MHz Op Amps, 5-pin SC-70, Pb-Free; PartNumber: LMV821M7/NOPB; Manufacturer: National Semiconductor; PackageTopMarking: A15*XTT; PowerWise: N; CompType: Amplifiers; High-Reliability: Y; DatasheetVersion: Nov-2003; PackageVersion: revD, Jun-2007; PackageReference: MAA05A; PackageDescription: Molded SC-70, 2 x 1.25 x .9mm, 5 Lead, 0.65mm Pitch; RoHS: Y; PinCount: 5; Code_JEITA: SC-88A; Code_JEDEC: MO-203-AA; Code_IPC: SOT353-5; ComponentLink1Description: Manufacturer URL; ComponentLink1URL: http://www.national.com/; ComponentLink2Description: LMV821 Datasheet; ComponentLink2URL: http://www.national.com/ds/LM/LMV821.pdf; ComponentLink3Description: LMV821 Web Page; ComponentLink3URL: http://www.national.com/pf/LM/LMV821.html; ComponentLink4Description: MAA05A Package Page; ComponentLink4URL: http://www.national.com/packaging/folders/maa05a.html
footprint MAA05A_N (SOT353, 5-Leads, Body 2x1.3mm, Pitch 0.65mm, Lead Span 2.1mm, IPC Medium Density)
footprint MAA05A_L (SOT353, 5-Leads, Body 2x1.3mm, Pitch 0.65mm, Lead Span 2.1mm, IPC High Density)
footprint MAA05A_M (SOT353, 5-Leads, Body 2x1.3mm, Pitch 0.65mm, Lead Span 2.1mm, IPC Low Density)
pins: 1 IN+ (in), 2 V- (power), 3 IN- (in), 4 OUT (out), 5 V+ (power)

## LMV821M7X
designator U?
5MHz, Low Voltage, Low Power, RRO, 5 MHz Op Amps, 5-pin SC-70; PartNumber: LMV821M7X; Manufacturer: National Semiconductor; PackageTopMarking: A15*XTT; PowerWise: N; CompType: Amplifiers; High-Reliability: Y; DatasheetVersion: Nov-2003; PackageVersion: revD, Jun-2007; PackageReference: MAA05A; PackageDescription: Molded SC-70, 2 x 1.25 x .9mm, 5 Lead, 0.65mm Pitch; RoHS: N; PinCount: 5; Code_JEITA: SC-88A; Code_JEDEC: MO-203-AA; Code_IPC: SOT353-5; ComponentLink1Description: Manufacturer URL; ComponentLink1URL: http://www.national.com/; ComponentLink2Description: LMV821 Datasheet; ComponentLink2URL: http://www.national.com/ds/LM/LMV821.pdf; ComponentLink3Description: LMV821 Web Page; ComponentLink3URL: http://www.national.com/pf/LM/LMV821.html; ComponentLink4Description: MAA05A Package Page; ComponentLink4URL: http://www.national.com/packaging/folders/maa05a.html
footprint MAA05A_N (SOT353, 5-Leads, Body 2x1.3mm, Pitch 0.65mm, Lead Span 2.1mm, IPC Medium Density)
footprint MAA05A_L (SOT353, 5-Leads, Body 2x1.3mm, Pitch 0.65mm, Lead Span 2.1mm, IPC High Density)
footprint MAA05A_M (SOT353, 5-Leads, Body 2x1.3mm, Pitch 0.65mm, Lead Span 2.1mm, IPC Low Density)
pins: 1 IN+ (in), 2 V- (power), 3 IN- (in), 4 OUT (out), 5 V+ (power)

## LMV822M
designator U?
Low Voltage, Low Power, RRO, 5 MHz Op Amps, 8-pin Narrow SOIC; PartNumber: LMV822M; Manufacturer: National Semiconductor; PackageTopMarking: NSZXTT*LMV*822M; PowerWise: N; CompType: Amplifiers; High-Reliability: Y; DatasheetVersion: Nov-2003; PackageVersion: revM, May-2009; PackageReference: M08A; PackageDescription: SOIC Narrow, 4.9 x 3.9 x 1.45mm, 8 Lead, 1.27mm Pitch; RoHS: N; PinCount: 8; Code_JEDEC: MS-012-AA; Code_IPC: SOIC127P600-8; ComponentLink1Description: Manufacturer URL; ComponentLink1URL: http://www.national.com/; ComponentLink2Description: LMV822 Datasheet; ComponentLink2URL: http://www.national.com/ds/LM/LMV822.pdf; ComponentLink3Description: LMV822 Web Page; ComponentLink3URL: http://www.national.com/pf/LM/LMV822.html; ComponentLink4Description: M08A Package Page; ComponentLink4URL: http://www.national.com/packaging/folders/m08a.html
footprint M08A_N (SOIC, 8-Leads, Body 4.9x3.9mm, Pitch 1.27mm, IPC Medium Density)
footprint M08A_L (SOIC, 8-Leads, Body 4.9x3.9mm, Pitch 1.27mm, IPC High Density)
footprint M08A_M (SOIC, 8-Leads, Body 4.9x3.9mm, Pitch 1.27mm, IPC Low Density)
pins on every part: 4 V- (power), 8 V+ (power)
part A pins: 1 OUTA (out), 2 INA- (in), 3 INA+ (in)
part B pins: 5 INB+ (in), 6 INB- (in), 7 OUTB (out)

## LMV822M/NOPB
designator U?
Low Voltage, Low Power, RRO, 5 MHz Op Amps, 8-pin Narrow SOIC, Pb-Free; PartNumber: LMV822M/NOPB; Manufacturer: National Semiconductor; PackageTopMarking: NSZXTT*LMV*822M; PowerWise: N; CompType: Amplifiers; High-Reliability: Y; DatasheetVersion: Nov-2003; PackageVersion: revM, May-2009; PackageReference: M08A; PackageDescription: SOIC Narrow, 4.9 x 3.9 x 1.45mm, 8 Lead, 1.27mm Pitch; RoHS: Y; PinCount: 8; Code_JEDEC: MS-012-AA; Code_IPC: SOIC127P600-8; ComponentLink1Description: Manufacturer URL; ComponentLink1URL: http://www.national.com/; ComponentLink2Description: LMV822 Datasheet; ComponentLink2URL: http://www.national.com/ds/LM/LMV822.pdf; ComponentLink3Description: LMV822 Web Page; ComponentLink3URL: http://www.national.com/pf/LM/LMV822.html; ComponentLink4Description: M08A Package Page; ComponentLink4URL: http://www.national.com/packaging/folders/m08a.html
footprint M08A_N (SOIC, 8-Leads, Body 4.9x3.9mm, Pitch 1.27mm, IPC Medium Density)
footprint M08A_L (SOIC, 8-Leads, Body 4.9x3.9mm, Pitch 1.27mm, IPC High Density)
footprint M08A_M (SOIC, 8-Leads, Body 4.9x3.9mm, Pitch 1.27mm, IPC Low Density)
pins on every part: 4 V- (power), 8 V+ (power)
part A pins: 1 OUTA (out), 2 INA- (in), 3 INA+ (in)
part B pins: 5 INB+ (in), 6 INB- (in), 7 OUTB (out)

## LMV822MM
designator U?
Low Voltage, Low Power, RRO, 5 MHz Op Amps, 8-pin Mini SOIC; PartNumber: LMV822MM; Manufacturer: National Semiconductor; PackageTopMarking: ZXTT*V822; PowerWise: N; CompType: Amplifiers; High-Reliability: Y; DatasheetVersion: Nov-2003; PackageVersion: revF, Apr-2008; PackageReference: MUA08A; PackageDescription: MINI SOIC, .118 x .118 x .034in, 8 Lead, .0256in Pitch; RoHS: N; PinCount: 8; Code_JEDEC: MO-187-AA; ComponentLink1Description: Manufacturer URL; ComponentLink1URL: http://www.national.com/; ComponentLink2Description: LMV822 Datasheet; ComponentLink2URL: http://www.national.com/ds/LM/LMV822.pdf; ComponentLink3Description: LMV822 Web Page; ComponentLink3URL: http://www.national.com/pf/LM/LMV822.html; ComponentLink4Description: MUA08A Package Page; ComponentLink4URL: http://www.national.com/packaging/folders/mua08a.html
footprint MUA08A_N (TSOP, 8-Leads, Body 3x3mm, Pitch 0.65mm, IPC Medium Density)
footprint MUA08A_L (TSOP, 8-Leads, Body 3x3mm, Pitch 0.65mm, IPC High Density)
footprint MUA08A_M (TSOP, 8-Leads, Body 3x3mm, Pitch 0.65mm, IPC Low Density)
pins on every part: 4 V- (power), 8 V+ (power)
part A pins: 1 OUTA (out), 2 INA- (in), 3 INA+ (in)
part B pins: 5 INB+ (in), 6 INB- (in), 7 OUTB (out)

## LMV822MM/NOPB
designator U?
Low Voltage, Low Power, RRO, 5 MHz Op Amps, 8-pin Mini SOIC, Pb-Free; PartNumber: LMV822MM/NOPB; Manufacturer: National Semiconductor; PackageTopMarking: ZXTT*V822; PowerWise: N; CompType: Amplifiers; High-Reliability: Y; DatasheetVersion: Nov-2003; PackageVersion: revF, Apr-2008; PackageReference: MUA08A; PackageDescription: MINI SOIC, .118 x .118 x .034in, 8 Lead, .0256in Pitch; RoHS: Y; PinCount: 8; Code_JEDEC: MO-187-AA; ComponentLink1Description: Manufacturer URL; ComponentLink1URL: http://www.national.com/; ComponentLink2Description: LMV822 Datasheet; ComponentLink2URL: http://www.national.com/ds/LM/LMV822.pdf; ComponentLink3Description: LMV822 Web Page; ComponentLink3URL: http://www.national.com/pf/LM/LMV822.html; ComponentLink4Description: MUA08A Package Page; ComponentLink4URL: http://www.national.com/packaging/folders/mua08a.html
footprint MUA08A_N (TSOP, 8-Leads, Body 3x3mm, Pitch 0.65mm, IPC Medium Density)
footprint MUA08A_L (TSOP, 8-Leads, Body 3x3mm, Pitch 0.65mm, IPC High Density)
footprint MUA08A_M (TSOP, 8-Leads, Body 3x3mm, Pitch 0.65mm, IPC Low Density)
pins on every part: 4 V- (power), 8 V+ (power)
part A pins: 1 OUTA (out), 2 INA- (in), 3 INA+ (in)
part B pins: 5 INB+ (in), 6 INB- (in), 7 OUTB (out)

## LMV822MMX
designator U?
Low Voltage, Low Power, RRO, 5 MHz Op Amps, 8-pin Mini SOIC; PartNumber: LMV822MMX; Manufacturer: National Semiconductor; PackageTopMarking: ZXTT*V822; PowerWise: N; CompType: Amplifiers; High-Reliability: Y; DatasheetVersion: Nov-2003; PackageVersion: revF, Apr-2008; PackageReference: MUA08A; PackageDescription: MINI SOIC, .118 x .118 x .034in, 8 Lead, .0256in Pitch; RoHS: N; PinCount: 8; Code_JEDEC: MO-187-AA; ComponentLink1Description: Manufacturer URL; ComponentLink1URL: http://www.national.com/; ComponentLink2Description: LMV822 Datasheet; ComponentLink2URL: http://www.national.com/ds/LM/LMV822.pdf; ComponentLink3Description: LMV822 Web Page; ComponentLink3URL: http://www.national.com/pf/LM/LMV822.html; ComponentLink4Description: MUA08A Package Page; ComponentLink4URL: http://www.national.com/packaging/folders/mua08a.html
footprint MUA08A_N (TSOP, 8-Leads, Body 3x3mm, Pitch 0.65mm, IPC Medium Density)
footprint MUA08A_L (TSOP, 8-Leads, Body 3x3mm, Pitch 0.65mm, IPC High Density)
footprint MUA08A_M (TSOP, 8-Leads, Body 3x3mm, Pitch 0.65mm, IPC Low Density)
pins on every part: 4 V- (power), 8 V+ (power)
part A pins: 1 OUTA (out), 2 INA- (in), 3 INA+ (in)
part B pins: 5 INB+ (in), 6 INB- (in), 7 OUTB (out)

## LMV822MX
designator U?
Low Voltage, Low Power, RRO, 5 MHz Op Amps, 8-pin Narrow SOIC; PartNumber: LMV822MX; Manufacturer: National Semiconductor; PackageTopMarking: NSZXTT*LMV*822M; PowerWise: N; CompType: Amplifiers; High-Reliability: Y; DatasheetVersion: Nov-2003; PackageVersion: revM, May-2009; PackageReference: M08A; PackageDescription: SOIC Narrow, 4.9 x 3.9 x 1.45mm, 8 Lead, 1.27mm Pitch; RoHS: N; PinCount: 8; Code_JEDEC: MS-012-AA; Code_IPC: SOIC127P600-8; ComponentLink1Description: Manufacturer URL; ComponentLink1URL: http://www.national.com/; ComponentLink2Description: LMV822 Datasheet; ComponentLink2URL: http://www.national.com/ds/LM/LMV822.pdf; ComponentLink3Description: LMV822 Web Page; ComponentLink3URL: http://www.national.com/pf/LM/LMV822.html; ComponentLink4Description: M08A Package Page; ComponentLink4URL: http://www.national.com/packaging/folders/m08a.html
footprint M08A_N (SOIC, 8-Leads, Body 4.9x3.9mm, Pitch 1.27mm, IPC Medium Density)
footprint M08A_L (SOIC, 8-Leads, Body 4.9x3.9mm, Pitch 1.27mm, IPC High Density)
footprint M08A_M (SOIC, 8-Leads, Body 4.9x3.9mm, Pitch 1.27mm, IPC Low Density)
pins on every part: 4 V- (power), 8 V+ (power)
part A pins: 1 OUTA (out), 2 INA- (in), 3 INA+ (in)
part B pins: 5 INB+ (in), 6 INB- (in), 7 OUTB (out)